# Altium footprint library 智能家居.PcbLib: 48 footprints (part 1 of 3)
Each footprint in its own frame and in the unit in brackets; x right, y up, seen from the top. Pads: shape width x height; smd on the part's side, far side on the other; paste and mask are expansions set on the pad; w line width, h text height; cw(c..) or ccw(c..) is an arc to the next point about the centre after c.
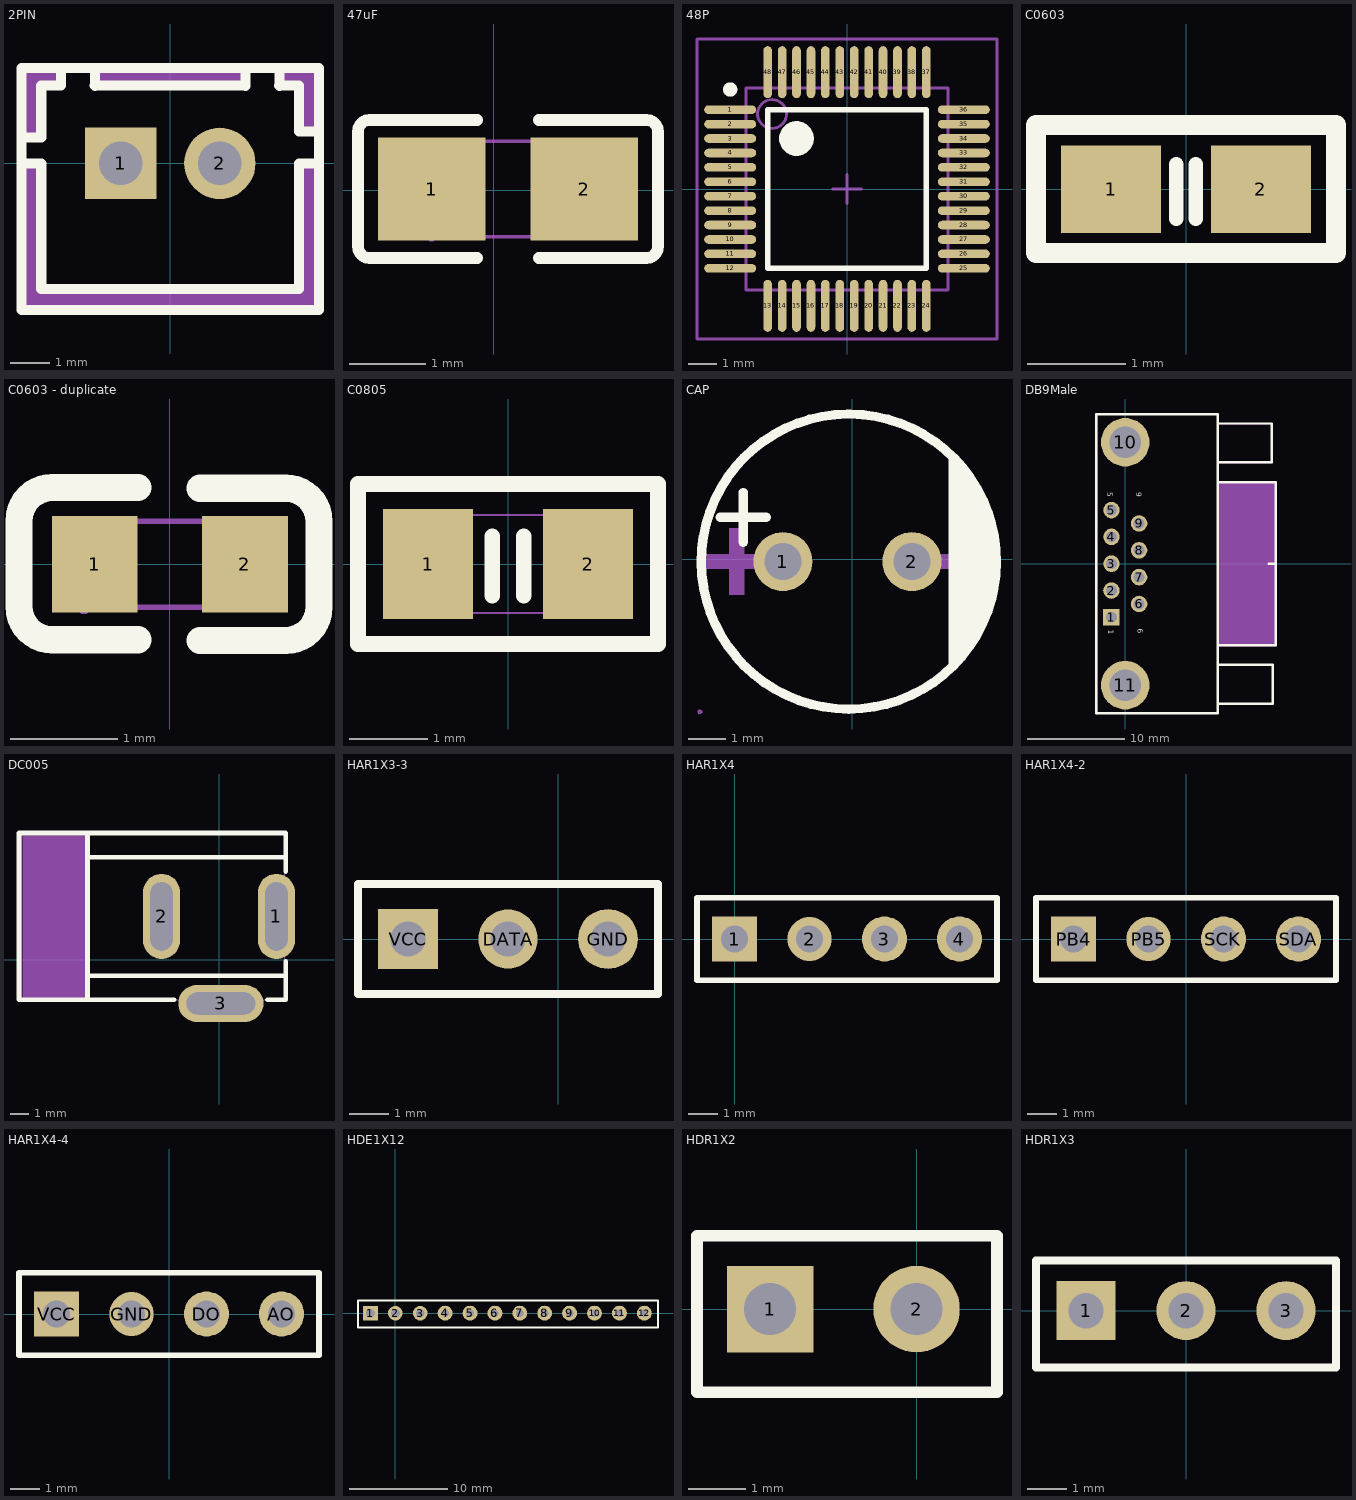
[diagram p0: the footprints below, top view; thin cyan lines are the x and y axes]

## 2PIN [mm]
pads (2):
  rect 1.8x1.8 hole 1.1 paste+0 mask+0.05: 1(-1.25,0)
  round 1.8 hole 1.1 paste+0 mask+0.05: 2(1.25,0)
Top Overlay:
  lines w0.254: -3.75,-2.416 -3.75,0 -3.25,0 -3.25,-2.416 -3.25,-3.167 3.25,-3.167 3.25,-2.344 3.25,0 3.75,0 3.75,-2.344 ; -3.75,-1.603 -3.75,0.648 -3.25,0.65 -3.25,1.958 -2.75,1.958 -2.75,2.408 ; -1.9,1.95 -1.9,2.4 ; -1.9,1.958 1.9,1.958 ; 1.9,1.95 1.9,2.4 ; 2.75,1.95 2.75,2.399 ; 2.75,1.958 3.25,1.958 3.25,0.8 3.75,0.8 3.75,-1.501 ; -3.75,-3.7 -3.75,2.4 3.75,2.4 3.75,-3.7 -3.75,-3.7
Mechanical 6:
  region: 1.9,2.4 1.9,1.9 -1.9,1.9 -1.9,2.4
  region: 3.25,0 3.75,0 3.75,-3.7 -3.75,-3.7 -3.75,-0.05 -3.25,0 -3.25,-3.167 3.25,-3.167
  region: -2.75,1.9 -3.241,1.9 -3.25,1.908 -3.25,0.75 -3.75,0.75 -3.75,2.35 -2.751,2.35 -2.75,2.349
  region: 2.75,1.95 3.242,1.95 3.25,1.958 3.25,0.8 3.75,0.8 3.75,2.4 2.751,2.4 2.75,2.399
Mechanical 15:
  region: -3.69,-3.5 -3.69,-3.475 -3.725,-3.44 -3.775,-3.44 -3.81,-3.475 -3.81,-3.5 -3.81,-3.525 -3.775,-3.56 -3.725,-3.56 -3.69,-3.525 -3.69,-3.5
  region: -1.57,0.32 -0.93,0.32 -0.93,-0.32 -1.57,-0.32
  region: 0.93,0.32 1.57,0.32 1.57,-0.32 0.93,-0.32
  lines w0.051: -3.75,-3.5 3.75,-3.5 3.75,2.4 -3.75,2.4 -3.75,-3.5

## 47uF [mm]
pads (2):
  rect 1.41x1.35 smd paste-100 mask+0.051: 1(-0.814,0.015) 2(1.186,0.015)
Top Overlay:
  lines w0.152: -0.216,-0.889 -1.626,-0.889 cw(c-1.626,-0.737) -1.778,-0.737 -1.778,0.766 cw(c-1.626,0.766) -1.626,0.918 -0.216,0.918 ; 0.587,-0.889 1.997,-0.889 ccw(c1.997,-0.737) 2.149,-0.737 2.149,0.766 ccw(c1.997,0.766) 1.997,0.918 0.587,0.918
Top Paste:
  region: 0.661,-0.605 0.661,-0.185 1.106,-0.185 1.106,0.265 0.666,0.265 0.661,0.675 0.711,0.725 1.861,0.725 1.911,0.675 1.911,-0.605 1.861,-0.655 0.711,-0.655
  region: -1.489,-0.605 -1.489,0.675 -1.439,0.725 -0.289,0.725 -0.239,0.675 -0.234,0.265 -0.684,0.265 -0.684,-0.185 -0.244,-0.185 -0.239,-0.605 -0.289,-0.655 -1.439,-0.655
Mechanical 15:
  region: -0.754,-0.61 -0.755,-0.586 -0.79,-0.553 -0.839,-0.553 -0.873,-0.587 -0.874,-0.611 -0.873,-0.635 -0.838,-0.668 -0.79,-0.668 -0.755,-0.635
  region: 1.186,0.64 1.186,-0.61 0.686,-0.61 0.686,0.64
  region: -0.814,-0.61 -0.814,0.64 -0.314,0.64 -0.314,-0.61
  lines w0.051: -0.814,-0.61 1.186,-0.61 1.186,0.64 -0.814,0.64 -0.814,-0.61

## 48P [mm]
height 4.32
pads (48):
  oval 1.8x0.3 smd: 1(-4.05,2.75) 2(-4.05,2.25) 3(-4.05,1.75) 4(-4.05,1.25) 5(-4.05,0.75) 6(-4.05,0.25) 7(-4.05,-0.25) 8(-4.05,-0.75) 9(-4.05,-1.25) 10(-4.05,-1.75) 11(-4.05,-2.25) 12(-4.05,-2.75) 25(4.05,-2.75) 26(4.05,-2.25) 27(4.05,-1.75) 28(4.05,-1.25) 29(4.05,-0.75) 30(4.05,-0.25) 31(4.05,0.25) 32(4.05,0.75) 33(4.05,1.25) 34(4.05,1.75) 35(4.05,2.25) 36(4.05,2.75)
  oval 0.3x1.8 smd: 13(-2.75,-4.05) 14(-2.25,-4.05) 15(-1.75,-4.05) 16(-1.25,-4.05) 17(-0.75,-4.05) 18(-0.25,-4.05) 19(0.25,-4.05) 20(0.75,-4.05) 21(1.25,-4.05) 22(1.75,-4.05) 23(2.25,-4.05) 24(2.75,-4.05) 37(2.75,4.05) 38(2.25,4.05) 39(1.75,4.05) 40(1.25,4.05) 41(0.75,4.05) 42(0.25,4.05) 43(-0.25,4.05) 44(-0.75,4.05) 45(-1.25,4.05) 46(-1.75,4.05) 47(-2.25,4.05) 48(-2.75,4.05)
Top Overlay:
  circle w0.6: c-1.75,1.75 r0.3
  circle w0.25: c-4.05,3.45 r0.125
  lines w0.2: -2.75,-2.75 2.75,-2.75 2.75,2.75 -2.75,2.75 -2.75,-2.75
Mechanical 13:
  circle w0.1: c-2.6,2.6 r0.5
  lines w0.1: -3.5,-3.5 3.5,-3.5 3.5,3.5 -3.5,3.5 -3.5,-3.5
Mechanical 15:
  lines w0.1: -0.5,0 0.5,0 ; 0,-0.5 0,0.5 ; -5.2,-5.2 5.2,-5.2 5.2,5.2 -5.2,5.2 -5.2,-5.2
3D body: height 1.6, standoff 0, extent -3.5,-3.5 3.5,3.5

## C0603 [mil]
height 170.08
pads (2):
  rect 40x35 smd: 1(-29.92,0) 2(29.92,0)
Top Overlay:
  lines w5.91: -3.94,-11.81 -3.94,9.84 ; 3.94,-11.81 3.94,9.84
  lines w7.87: -60,-25.59 60,-25.59 60,25.59 -60,25.59 -60,-25.59

## C0603 - duplicate [mm]
pads (2):
  rect 0.8x0.9 smd: 1(-0.7,0) 2(0.7,0)
Top Overlay:
  lines w0.254: -0.296,-0.704 -1.096,-0.704 cw(c-1.096,-0.394) -1.406,-0.394 -1.405,0.406 cw(c-1.096,0.406) -1.096,0.715 -0.296,0.715 ; 0.28,-0.71 1.08,-0.71 ccw(c1.08,-0.4) 1.39,-0.4 1.39,0.4 ccw(c1.08,0.4) 1.08,0.71 0.28,0.71
Mechanical 15:
  region: -0.8,-0.4 -0.8,0.4 -0.5,0.4 -0.5,-0.4
  region: 0.8,-0.4 0.8,0.4 0.5,0.4 0.5,-0.4
  region: -0.74,-0.4 -0.74,-0.375 -0.775,-0.34 -0.825,-0.34 -0.86,-0.375 -0.86,-0.4 -0.86,-0.425 -0.825,-0.46 -0.775,-0.46 -0.74,-0.425
  lines w0.051: -0.8,-0.4 -0.8,0.4 0.8,0.4 0.8,-0.4 -0.8,-0.4

## C0805 [mil]
height 104.33
pads (2):
  rect 45x55 smd: 1(-40,0) 2(40,0)
Top Overlay:
  lines w7.87: -7.87,-15.75 -7.87,13.78 ; 7.87,-15.75 7.87,13.78 ; -75,-40 -75,40 75,40 75,-40 -75,-40
Mechanical 8:
  lines w1: -39.37,-24.61 -39.37,24.61 39.37,24.61 39.37,-24.61 -39.37,-24.61

## CAP [mm]
pads (2):
  round 1.6 hole 1: 1(-1.88,-0.059) 2(1.62,-0.059)
Top Overlay:
  region: 2.62,-3.059 2.811,-2.859 3.138,-2.414 3.406,-1.931 3.612,-1.419 3.75,-0.884 3.82,-0.336 3.82,0.217 3.75,0.765 3.612,1.3 3.406,1.813 3.138,2.295 2.811,2.741 2.62,2.941
  lines w0.254: -3.574,1.141 -2.33,1.141 ; -2.952,0.467 -2.952,1.814 ; -0.127,3.941 ccw(c-0.092,-0.059) -0.056,3.941
Mechanical 6:
  region: 3.37,0.141 1.97,0.141 1.97,-0.259 3.57,-0.259 3.77,-0.259 3.77,0.141
  region: -2.63,0.141 -4.03,0.141 -4.03,-0.259 -2.43,-0.259 -2.23,-0.259 -2.23,0.141
  region: -3.33,0.441 -3.33,-0.959 -2.93,-0.959 -2.93,0.641 -2.93,0.841 -3.33,0.841
Mechanical 15:
  region: 1.87,-0.059 1.87,-0.01 1.832,0.081 1.761,0.151 1.67,0.189 1.571,0.189 1.479,0.151 1.409,0.081 1.371,-0.01 1.37,-0.059 1.371,-0.109 1.409,-0.2 1.479,-0.27 1.571,-0.308 1.67,-0.308 1.761,-0.27 1.832,-0.2 1.87,-0.109
  region: -1.63,-0.059 -1.63,-0.01 -1.669,0.081 -1.739,0.151 -1.83,0.189 -1.929,0.189 -2.021,0.151 -2.091,0.081 -2.129,-0.01 -2.13,-0.059 -2.129,-0.109 -2.091,-0.2 -2.021,-0.27 -1.929,-0.308 -1.83,-0.308 -1.739,-0.27 -1.669,-0.2 -1.63,-0.109
  region: -4.071,-4.131 -4.071,-4.106 -4.106,-4.071 -4.156,-4.071 -4.191,-4.106 -4.191,-4.131 -4.191,-4.156 -4.156,-4.191 -4.106,-4.191 -4.071,-4.156
  lines w0.051: -0.132,-4.131 cw(c-0.131,-0.131) -0.13,-4.131 -0.132,-4.131

## DB9Male [mm]
pads (11):
  rect 1.7x1.7 hole 1.1: 1(-1.42,-5.52)
  round 1.7 hole 1.1: 2(-1.42,-2.76) 3(-1.42,0) 4(-1.42,2.76) 5(-1.42,5.52) 6(1.42,-4.14) 7(1.42,-1.38) 8(1.42,1.38) 9(1.42,4.14)
  round 5 hole 3.25: 10(0,12.5) 11(0,-12.5)
Top Overlay:
  lines w0.254: 9.5,-14.4 15.2,-14.4 15.2,-10.4 9.5,-10.4 ; 9.5,-8.38 15.5,-8.38 15.5,8.37 9.5,8.37 ; 9.5,10.43 15.058,10.43 ; 9.5,14.57 9.5,14.428 15.076,14.428 15.076,10.46 ; 14.78,-0.005 15.48,-0.005 ; -3,-15.4 9.5,-15.4 9.5,14.621 9.5,15.4 -3,15.4 -3,-15.4
  text "5" at -1.854,7.349 h0.58
  text "1" at -1.753,-6.799 h0.58
  text "6" at 1.295,-6.698 h0.58
  text "9" at 1.143,7.374 h0.58
Mechanical 6:
  region: 9.5,8.4 15.5,8.4 15.5,-8.4 9.5,-8.4
Mechanical 15:
  drawing of 29 lines, arcs and shapes, not listed

## DC005 [mm]
pads (3):
  oval 2x4.6 hole 1.2 slot 3.7 at 90 deg: 1(3.1,2.35) 2(-3.1,2.35)
  oval 4.6x2 hole 1.2 slot 3.7 at 0 deg: 3(0.1,-2.35)
Top Overlay:
  lines w0.254: -7.1,-2.15 -7.1,6.85 ; -7.02,-0.85 3.6,-0.85 ; -7.02,5.55 3.6,5.55 ; -2.415,-2.15 -10.8,-2.15 -10.8,6.85 3.6,6.85 3.6,4.775 ; 2.615,-2.15 3.6,-2.15 3.6,-0.074
Mechanical 6:
  region: -10.6,6.7 -7.2,6.7 -7.2,-2.1 -10.6,-2.1
Mechanical 15:
  region: -1.15,-2.55 1.35,-2.55 1.35,-2.09 -1.15,-2.09
  region: -2.9,1.1 -3.3,1.1 -3.3,3.6 -2.9,3.6
  region: -1.15,-2.15 1.35,-2.15 1.35,-2.55 -1.15,-2.55
  region: 2.9,3.6 3.3,3.6 3.3,1.1 2.9,1.1
  region: 3.61,6.85 3.61,6.875 3.575,6.91 3.525,6.91 3.49,6.875 3.49,6.85 3.49,6.825 3.525,6.79 3.575,6.79 3.61,6.825
  lines w0.051: -10.65,-2.15 -10.65,6.85 3.55,6.85 3.55,-2.15 -10.65,-2.15

## HAR1X3-3 [mm]
pads (3):
  round 1.5 hole 0.9: DATA(-1.27,0)
  round 1.524 hole 0.9: GND(1.27,0)
  rect 1.524x1.524 hole 0.9: VCC(-3.81,0)
Top Overlay:
  lines w0.2: -5.08,-1.397 2.54,-1.397 2.54,1.397 -5.08,1.397 -5.08,-1.397

## HAR1X4 [mm]
pads (4):
  rect 1.524x1.524 hole 0.9: 1(0,0)
  round 1.5 hole 0.9: 2(2.54,0)
  round 1.524 hole 0.9: 3(5.08,0) 4(7.62,0)
Top Overlay:
  lines w0.2: -1.27,-1.397 8.89,-1.397 8.89,1.397 -1.27,1.397 -1.27,-1.397

## HAR1X4-2 [mm]
pads (4):
  rect 1.524x1.524 hole 0.9: PB4(-3.81,0)
  round 1.5 hole 0.9: PB5(-1.27,0)
  round 1.524 hole 0.9: SCK(1.27,0) SDA(3.81,0)
Top Overlay:
  lines w0.2: -5.08,-1.397 5.08,-1.397 5.08,1.397 -5.08,1.397 -5.08,-1.397

## HAR1X4-4 [mm]
pads (4):
  round 1.524 hole 0.9: AO(3.81,0) DO(1.27,0)
  round 1.5 hole 0.9: GND(-1.27,0)
  rect 1.524x1.524 hole 0.9: VCC(-3.81,0)
Top Overlay:
  lines w0.2: -5.08,-1.397 -5.08,1.397 5.08,1.397 5.08,-1.397 -5.08,-1.397

## HDE1X12 [mil]
pads (12):
  rect 59.06x59.06 hole 35.43: 1(-100,0)
  round 59.06 hole 35.43: 2(0,0) 3(100,0)
  round 60 hole 30: 4(200,0) 5(300,0) 6(400,0) 7(500,0) 8(600,0) 9(700,0) 10(800,0) 11(900,0) 12(1000,0)
Top Overlay:
  lines w7.87: -150,-56.74 1055,-56.74 1055,50 -150,50 -150,-56.74

## HDR1X2 [mm]
pads (2):
  rect 1.5x1.5 hole 0.9: 1(-2.54,0)
  round 1.5 hole 0.9: 2(0,0)
Top Overlay:
  lines w0.2: -3.81,-1.441 -3.81,1.27 1.397,1.27 1.397,-1.441 -3.81,-1.441

## HDR1X3 [mm]
pads (3):
  rect 1.5x1.5 hole 0.9: 1(-2.54,0)
  round 1.5 hole 0.9: 2(0,0) 3(2.54,0)
Top Overlay:
  lines w0.2: -3.81,-1.441 -3.81,1.27 3.81,1.27 3.81,-1.441 -3.81,-1.441